# Altium footprint library switches.PcbLib: 1 footprints
Each footprint in its own frame and in the unit in brackets; x right, y up, seen from the top. Pads: shape width x height; smd on the part's side, far side on the other; paste and mask are expansions set on the pad; w line width, h text height; cw(c..) or ccw(c..) is an arc to the next point about the centre after c.
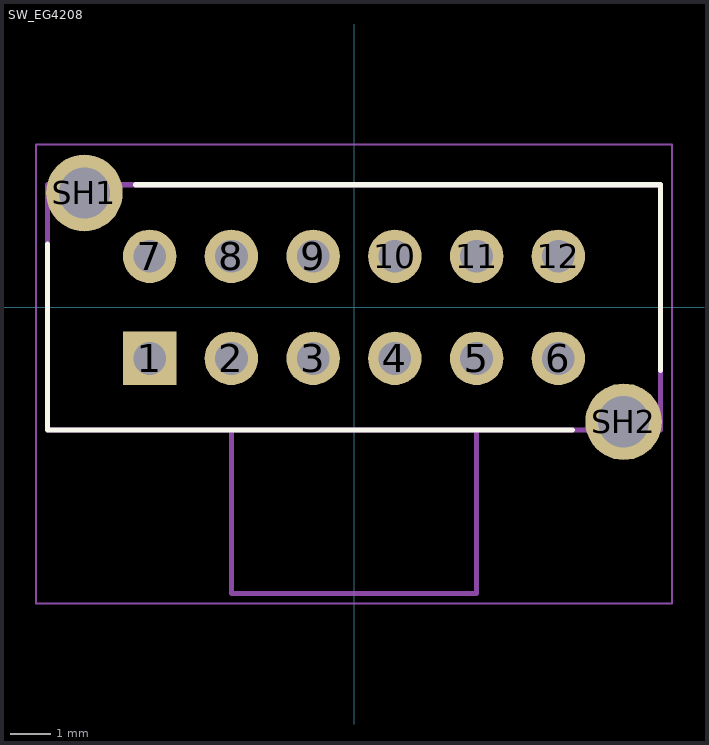
[diagram p0: the footprint, top view; thin cyan lines are the x and y axes]

## SW_EG4208 [mm]
height 5
pads (14):
  rect 1.308x1.308 / inner round 1.308 / far side rect 1.308x1.308 hole 0.8 mask+0: 1(-5,-1.25)
  round 1.308 hole 0.8 mask+0: 2(-3,-1.25) 3(-1,-1.25) 4(1,-1.25) 5(3,-1.25) 6(5,-1.25) 7(-5,1.25) 8(-3,1.25) 9(-1,1.25) 10(1,1.25) 11(3,1.25) 12(5,1.25)
  round 1.875 hole 1.25 mask+0.102: SH1(-6.6,2.8) SH2(6.6,-2.8)
Top Overlay:
  lines w0.127: -7.5,1.542 -7.5,-3 5.342,-3 ; -5.342,3 7.5,3 7.5,-1.542
Mechanical 13:
  lines w0.127: -3,-3 -3,-7 3,-7 3,-3 ; -3,-3 -7.5,-3 -7.5,3 7.5,3 7.5,-3 3,-3 ; -3,-3 3,-3
Mechanical 15:
  lines w0.05: -7.788,-7.25 7.788,-7.25 7.788,3.988 -7.788,3.988 -7.788,-7.25
3D body "step_temp.STEP": height 5.02, standoff -2.98, extent -7.5,-7 7.5,3